# Altium schematic symbol library HW_ADHERENT_LANECTRL_R1.SchLib: 1635 symbols (part 27 of 31)
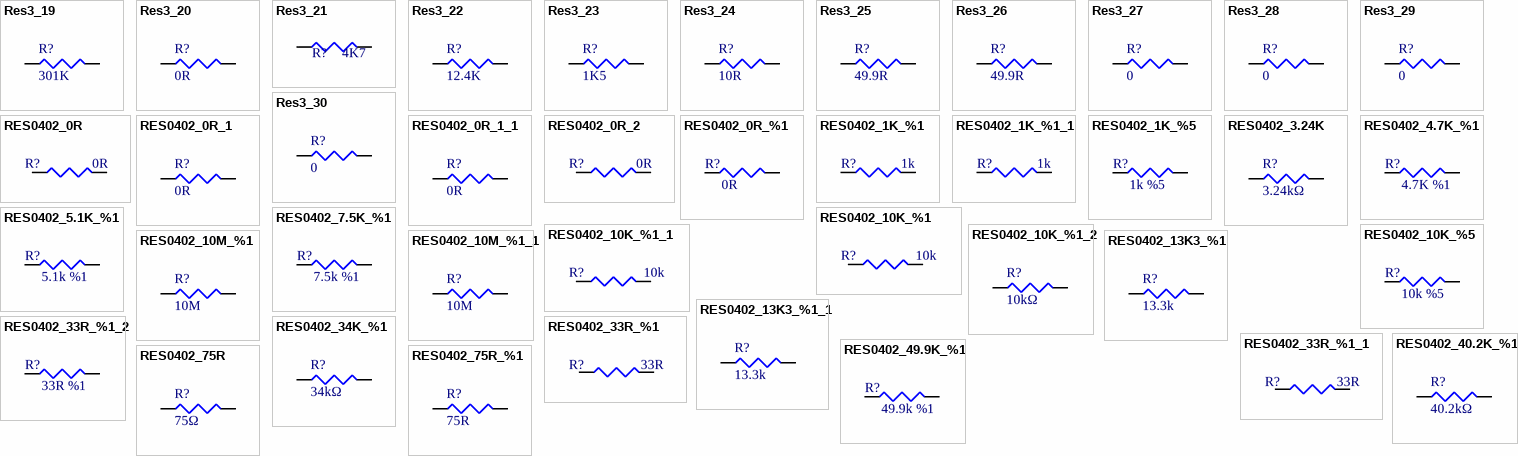
[diagram p77: symbols Res3_19 to RES0402_75R_%1]

## Res3_29
designator R?, comment 0
RES SMD 0 OHM JUMPER 1/10W 0603; Manufacturer: Yageo; Manufacturer Part Number: RC0603JR-070RL; Resistance: 0mR; Tolerance: 1%; Voltage Rating: 50V; Power Rating: 100mW; Temperature Coefficient: 200ppm/°C; Resistance Tolerance: 5%; ComponentLink1URL: https://datasheet.ciiva.com/11819/0900766b80c66297-11819477.pdf?src-supplier=RSComponents; ComponentLink1Description: https://datasheet.ciiva.com/11819/0900766b80c66297-11819477.pdf?src-supplier=RSComponents; ComponentLink2URL: https://datasheet.ciiva.com/12666/pyu-rc0402-51-rohs-l-6-r-12666741.pdf?src-supplier=Mouser; ComponentLink2Description: https://datasheet.ciiva.com/12666/pyu-rc0402-51-rohs-l-6-r-12666741.pdf?src-supplier=Mouser; ComponentLink3URL: https://datasheet.ciiva.com/17063/pyu-rc0402-51-rohs-l-6-r-17063193.pdf?src-supplier=Future+Electronics; ComponentLink3Description: https://datasheet.ciiva.com/17063/pyu-rc0402-51-rohs-l-6-r-17063193.pdf?src-supplier=Future+Electronics; ComponentLink4URL: https://datasheet.ciiva.com/22747/1018594-22747513.pdf?src-supplier=Element14; ComponentLink4Description: https://datasheet.ciiva.com/22747/1018594-22747513.pdf?src-supplier=Element14; ComponentLink5URL: https://datasheet.ciiva.com/7849/1018594-7849869.pdf?src-supplier=Element14; ComponentLink5Description: https://datasheet.ciiva.com/7849/1018594-7849869.pdf?src-supplier=Element14; ComponentLink6URL: https://datasheet.ciiva.com/7983/1018594-7983502.pdf?src-supplier=Element14; ComponentLink6Description: https://datasheet.ciiva.com/7983/1018594-7983502.pdf?src-supplier=Element14; ComponentLink7URL: https://datasheet.ciiva.com/7849/1018594-7849871.pdf?src-supplier=Element14; ComponentLink7Description: https://datasheet.ciiva.com/7849/1018594-7849871.pdf?src-supplier=Element14; ComponentLink8URL: https://datasheet.ciiva.com/11808/0900766b80c66297-11808195.pdf?src-supplier=RSComponents; ComponentLink8Description: https://datasheet.ciiva.com/11808/0900766b80c66297-11808195.pdf?src-supplier=RSComponents; ComponentLink9URL: https://datasheet.ciiva.com/2452/pyu-rc0402-51-rohs-l-6-2452608.pdf?src-supplier=Digi-Key; ComponentLink9Description: https://datasheet.ciiva.com/2452/pyu-rc0402-51-rohs-l-6-2452608.pdf?src-supplier=Digi-Key; ComponentLink10URL: https://datasheet.ciiva.com/2452/pyu-r-int-thick-7-2452609.pdf?src-supplier=Digi-Key; ComponentLink10Description: https://datasheet.ciiva.com/2452/pyu-r-int-thick-7-2452609.pdf?src-supplier=Digi-Key; ComponentLink11URL: https://datasheet.ciiva.com/2452/pyu-r-int-thick-7-2452610.pdf?src-supplier=Digi-Key; ComponentLink11Description: https://datasheet.ciiva.com/2452/pyu-r-int-thick-7-2452610.pdf?src-supplier=Digi-Key; ComponentLink12URL: https://datasheet.ciiva.com/28386/pyu-rc0402-51-rohs-l-6-28386633.pdf?src-supplier=Avnet+Europe; ComponentLink12Description: https://datasheet.ciiva.com/28386/pyu-rc0402-51-rohs-l-6-28386633.pdf?src-supplier=Avnet+Europe; ComponentLink13URL: https://datasheet.ciiva.com/22747/1018594-22747515.pdf?src-supplier=Element14; ComponentLink13Description: https://datasheet.ciiva.com/22747/1018594-22747515.pdf?src-supplier=Element14; ComponentLink14URL: https://datasheet.ciiva.com/7983/1018594-7983535.pdf?src-supplier=Element14; ComponentLink14Description: https://datasheet.ciiva.com/7983/1018594-7983535.pdf?src-supplier=Element14; ComponentLink15URL: https://datasheet.ciiva.com/8896/pyu-rc0402-51-rohs-l-6-8896201.pdf?src-supplier=Avnet; ComponentLink15Description: https://datasheet.ciiva.com/8896/pyu-rc0402-51-rohs-l-6-8896201.pdf?src-supplier=Avnet; ComponentLink16URL: https://datasheet.ciiva.com/15189/getdatasheetpartid-326379-15189533.pdf?src-supplier=Verical; ComponentLink16Description: https://datasheet.ciiva.com/15189/getdatasheetpartid-326379-15189533.pdf?src-supplier=Verical; Supplier 1: Digi-Key; Supplier Part Number 1: 311-0.0GRCT-ND; RoHS: Yes; Category: Chip SMD Resistors; Stock 1: 5228413; Pricing 1: 1=0,10000, 10=0,01700, 25=0,01240, 50=0,00940, 100=0,00700, 250=0,00532, 500=0,00424, 1000=0,00313 (USD); Case/Package: 0603; Number of Pins: 2; Case Code (Imperial): 0603; Case Code (Metric): 1608; Contact Plating: Tin,Matte; Size Code: 0603; Min Operating Temperature: -55°C; Max Operating Temperature: 155°C; Package Quantity: 5000; Packaging: Tape and Reel; Voltage Rating (DC): 50V; Termination: SMD/SMT; Resistor Type: Thick Film; Features: Moisture Resistant; Series: RC; Max Power Dissipation: 100mW; Number of Terminations: 2; Construction: Rectangular; Technology: THICK FILM; Length: 1.6mm; Width: 0.8mm; Height: 0.45mm; Depth: 0.8mm; Radiation Hardening: No; REACH SVHC: No SVHC; Military Standard: Not; Lead Free: Lead Free; RoHS Compliant: Yes; ComponentLink17URL: https://datasheet.ciiva.com/11808/pyu-r-int-6-11808700.pdf?src-supplier=RSComponents; ComponentLink17Description: https://datasheet.ciiva.com/11808/pyu-r-int-6-11808700.pdf?src-supplier=RSComponents; ComponentLink18URL: https://datasheet.ciiva.com/22747/443971-22747530.pdf?src-supplier=Element14; ComponentLink18Description: https://datasheet.ciiva.com/22747/443971-22747530.pdf?src-supplier=Element14; ComponentLink19URL: https://datasheet.ciiva.com/12555/rc0603-272842-12555254.pdf?src-supplier=Mouser; ComponentLink19Description: https://datasheet.ciiva.com/12555/rc0603-272842-12555254.pdf?src-supplier=Mouser; ComponentLink20URL: https://datasheet.ciiva.com/7746/1738695-7746421.pdf?src-supplier=Element14; ComponentLink20Description: https://datasheet.ciiva.com/7746/1738695-7746421.pdf?src-supplier=Element14; ComponentLink21URL: https://datasheet.ciiva.com/7746/1738695-7746422.pdf?src-supplier=Element14; ComponentLink21Description: https://datasheet.ciiva.com/7746/1738695-7746422.pdf?src-supplier=Element14; ComponentLink22URL: https://datasheet.ciiva.com/8883/pyu-rc0603-51-rohs-l-4-8883045.pdf?src-supplier=Avnet; ComponentLink22Description: https://datasheet.ciiva.com/8883/pyu-rc0603-51-rohs-l-4-8883045.pdf?src-supplier=Avnet
simulation model RESISTOR (Resistor)
signal-integrity model Res
footprint SMR0603
footprint R 0603(1608)
pins: 1, 2

## Res3_30
designator R?, comment 0
RES SMD 0 OHM JUMPER 1/10W 0603; Manufacturer: Yageo; Manufacturer Part Number: RC0603JR-070RL; Resistance: 0mR; Tolerance: 1%; Voltage Rating: 50V; Power Rating: 100mW; Temperature Coefficient: 200ppm/°C; Resistance Tolerance: 5%; ComponentLink1URL: https://datasheet.ciiva.com/11819/0900766b80c66297-11819477.pdf?src-supplier=RSComponents; ComponentLink1Description: https://datasheet.ciiva.com/11819/0900766b80c66297-11819477.pdf?src-supplier=RSComponents; ComponentLink2URL: https://datasheet.ciiva.com/12666/pyu-rc0402-51-rohs-l-6-r-12666741.pdf?src-supplier=Mouser; ComponentLink2Description: https://datasheet.ciiva.com/12666/pyu-rc0402-51-rohs-l-6-r-12666741.pdf?src-supplier=Mouser; ComponentLink3URL: https://datasheet.ciiva.com/17063/pyu-rc0402-51-rohs-l-6-r-17063193.pdf?src-supplier=Future+Electronics; ComponentLink3Description: https://datasheet.ciiva.com/17063/pyu-rc0402-51-rohs-l-6-r-17063193.pdf?src-supplier=Future+Electronics; ComponentLink4URL: https://datasheet.ciiva.com/22747/1018594-22747513.pdf?src-supplier=Element14; ComponentLink4Description: https://datasheet.ciiva.com/22747/1018594-22747513.pdf?src-supplier=Element14; ComponentLink5URL: https://datasheet.ciiva.com/7849/1018594-7849869.pdf?src-supplier=Element14; ComponentLink5Description: https://datasheet.ciiva.com/7849/1018594-7849869.pdf?src-supplier=Element14; ComponentLink6URL: https://datasheet.ciiva.com/7983/1018594-7983502.pdf?src-supplier=Element14; ComponentLink6Description: https://datasheet.ciiva.com/7983/1018594-7983502.pdf?src-supplier=Element14; ComponentLink7URL: https://datasheet.ciiva.com/7849/1018594-7849871.pdf?src-supplier=Element14; ComponentLink7Description: https://datasheet.ciiva.com/7849/1018594-7849871.pdf?src-supplier=Element14; ComponentLink8URL: https://datasheet.ciiva.com/11808/0900766b80c66297-11808195.pdf?src-supplier=RSComponents; ComponentLink8Description: https://datasheet.ciiva.com/11808/0900766b80c66297-11808195.pdf?src-supplier=RSComponents; ComponentLink9URL: https://datasheet.ciiva.com/2452/pyu-rc0402-51-rohs-l-6-2452608.pdf?src-supplier=Digi-Key; ComponentLink9Description: https://datasheet.ciiva.com/2452/pyu-rc0402-51-rohs-l-6-2452608.pdf?src-supplier=Digi-Key; ComponentLink10URL: https://datasheet.ciiva.com/2452/pyu-r-int-thick-7-2452609.pdf?src-supplier=Digi-Key; ComponentLink10Description: https://datasheet.ciiva.com/2452/pyu-r-int-thick-7-2452609.pdf?src-supplier=Digi-Key; ComponentLink11URL: https://datasheet.ciiva.com/2452/pyu-r-int-thick-7-2452610.pdf?src-supplier=Digi-Key; ComponentLink11Description: https://datasheet.ciiva.com/2452/pyu-r-int-thick-7-2452610.pdf?src-supplier=Digi-Key; ComponentLink12URL: https://datasheet.ciiva.com/28386/pyu-rc0402-51-rohs-l-6-28386633.pdf?src-supplier=Avnet+Europe; ComponentLink12Description: https://datasheet.ciiva.com/28386/pyu-rc0402-51-rohs-l-6-28386633.pdf?src-supplier=Avnet+Europe; ComponentLink13URL: https://datasheet.ciiva.com/22747/1018594-22747515.pdf?src-supplier=Element14; ComponentLink13Description: https://datasheet.ciiva.com/22747/1018594-22747515.pdf?src-supplier=Element14; ComponentLink14URL: https://datasheet.ciiva.com/7983/1018594-7983535.pdf?src-supplier=Element14; ComponentLink14Description: https://datasheet.ciiva.com/7983/1018594-7983535.pdf?src-supplier=Element14; ComponentLink15URL: https://datasheet.ciiva.com/8896/pyu-rc0402-51-rohs-l-6-8896201.pdf?src-supplier=Avnet; ComponentLink15Description: https://datasheet.ciiva.com/8896/pyu-rc0402-51-rohs-l-6-8896201.pdf?src-supplier=Avnet; ComponentLink16URL: https://datasheet.ciiva.com/15189/getdatasheetpartid-326379-15189533.pdf?src-supplier=Verical; ComponentLink16Description: https://datasheet.ciiva.com/15189/getdatasheetpartid-326379-15189533.pdf?src-supplier=Verical; Supplier 1: Digi-Key; Supplier Part Number 1: 311-0.0GRCT-ND; RoHS: Yes; Category: Chip SMD Resistors; Stock 1: 5228413; Pricing 1: 1=0,10000, 10=0,01700, 25=0,01240, 50=0,00940, 100=0,00700, 250=0,00532, 500=0,00424, 1000=0,00313 (USD); Case/Package: 0603; Number of Pins: 2; Case Code (Imperial): 0603; Case Code (Metric): 1608; Contact Plating: Tin,Matte; Size Code: 0603; Min Operating Temperature: -55°C; Max Operating Temperature: 155°C; Package Quantity: 5000; Packaging: Tape and Reel; Voltage Rating (DC): 50V; Termination: SMD/SMT; Resistor Type: Thick Film; Features: Moisture Resistant; Series: RC; Max Power Dissipation: 100mW; Number of Terminations: 2; Construction: Rectangular; Technology: THICK FILM; Length: 1.6mm; Width: 0.8mm; Height: 0.45mm; Depth: 0.8mm; Radiation Hardening: No; REACH SVHC: No SVHC; Military Standard: Not; Lead Free: Lead Free; RoHS Compliant: Yes; ComponentLink17URL: https://datasheet.ciiva.com/11808/pyu-r-int-6-11808700.pdf?src-supplier=RSComponents; ComponentLink17Description: https://datasheet.ciiva.com/11808/pyu-r-int-6-11808700.pdf?src-supplier=RSComponents; ComponentLink18URL: https://datasheet.ciiva.com/22747/443971-22747530.pdf?src-supplier=Element14; ComponentLink18Description: https://datasheet.ciiva.com/22747/443971-22747530.pdf?src-supplier=Element14; ComponentLink19URL: https://datasheet.ciiva.com/12555/rc0603-272842-12555254.pdf?src-supplier=Mouser; ComponentLink19Description: https://datasheet.ciiva.com/12555/rc0603-272842-12555254.pdf?src-supplier=Mouser; ComponentLink20URL: https://datasheet.ciiva.com/7746/1738695-7746421.pdf?src-supplier=Element14; ComponentLink20Description: https://datasheet.ciiva.com/7746/1738695-7746421.pdf?src-supplier=Element14; ComponentLink21URL: https://datasheet.ciiva.com/7746/1738695-7746422.pdf?src-supplier=Element14; ComponentLink21Description: https://datasheet.ciiva.com/7746/1738695-7746422.pdf?src-supplier=Element14; ComponentLink22URL: https://datasheet.ciiva.com/8883/pyu-rc0603-51-rohs-l-4-8883045.pdf?src-supplier=Avnet; ComponentLink22Description: https://datasheet.ciiva.com/8883/pyu-rc0603-51-rohs-l-4-8883045.pdf?src-supplier=Avnet
simulation model RESISTOR (Resistor)
signal-integrity model Res
footprint SMR0603
footprint R 0603(1608)
pins: 1, 2

## RES0402_0R
designator R?, comment value 0R  (hidden comment: RES 0 OHM JUMPER 1/16W 0402)
0 Ohms Jumper Chip Resistor 0402 (1005 Metric) Moisture Resistant Thick Film; Manufacturer Part Number: RC0402JR-070RL; Order Code: Digi: 311-0.0JRTR-ND; Sirius Stock Code: *; LCSC Manufacturer Part Number: RC0402JR-070RL; LCSC Part Number: C60485
footprint RES0402(1005)
pins: 1, 2

## RES0402_0R_1
designator R?, comment value 0R  (hidden comment: RES 0 OHM JUMPER 1/16W 0402)
0 Ohms Jumper Chip Resistor 0402 (1005 Metric) Moisture Resistant Thick Film; Manufacturer Part Number: RC0402JR-070RL; Order Code: Digi: 311-0.0JRTR-ND; Sirius Stock Code: *; LCSC Manufacturer Part Number: RC0402JR-070RL; LCSC Part Number: C60485
footprint RES0402(1005)
pins: 1, 2

## RES0402_0R_1_1
designator R?, comment value 0R  (hidden comment: RES 0 OHM JUMPER 1/16W 0402)
0 Ohms Jumper Chip Resistor 0402 (1005 Metric) Moisture Resistant Thick Film; Manufacturer Part Number: RC0402JR-070RL; Order Code: Digi: 311-0.0JRTR-ND; Sirius Stock Code: *; LCSC Manufacturer Part Number: RC0402JR-070RL; LCSC Part Number: C60485
footprint RES0402(1005)
pins: 1, 2

## RES0402_0R_2
designator R?, comment value 0R  (hidden comment: RES 0 OHM JUMPER 1/16W 0402)
0 Ohms Jumper Chip Resistor 0402 (1005 Metric) Moisture Resistant Thick Film; Manufacturer Part Number: RC0402JR-070RL; Order Code: Digi: 311-0.0JRTR-ND; Sirius Stock Code: *; LCSC Manufacturer Part Number: RC0402JR-070RL; LCSC Part Number: C60485
footprint RES0402(1005)
pins: 1, 2

## RES0402_0R_%1
designator R?, comment value 0R  (hidden comment: RES SMD 0 OHM JUMPER 1/16W 0402)
0 Ohms Jumper Chip Resistor 0402 (1005 Metric) Automotive AEC-Q200 Thick Film; Manufacturer Part Number: CRCW04020000Z0ED; Order Code: DIGI: 541-0.0JTR-ND
footprint SMR0402
pins: 1, 2

## RES0402_1K_%1
designator R?, comment value 1k  (hidden comment: RES 1K OHM 1% 1/16W 0402)
1 kOhms ±1% 0.063W, 1/16W Chip Resistor 0402 (1005 Metric) Moisture Resistant Thick Film; Manufacturer Part Number: RC0402FR-071KL; Order Code: Digi: 311-1.00KLRTR-ND; Sirius Stock Code: *; LCSC Manufacturer Part Number: RC0402FR-071KL; LCSC Part Number: C106235
footprint RES0402(1005)
pins: 1, 2

## RES0402_1K_%1_1
designator R?, comment value 1k  (hidden comment: RES 1K OHM 1% 1/16W 0402)
1 kOhms ±1% 0.063W, 1/16W Chip Resistor 0402 (1005 Metric) Moisture Resistant Thick Film; Manufacturer Part Number: RC0402FR-071KL; Order Code: Digi: 311-1.00KLRTR-ND; Sirius Stock Code: *; LCSC Manufacturer Part Number: RC0402FR-071KL; LCSC Part Number: C106235
footprint RES0402(1005)
pins: 1, 2

## RES0402_1K_%5
designator R?, comment value 1k %5  (hidden comment: RES SMD 1K OHM 5% 1/10W 0402)
1 kOhms ±5% 0.1W, 1/10W Chip Resistor 0402 (1005 Metric) Automotive AEC-Q200 Thick Film; Manufacturer Part Number: ERJ-2GEJ102X; Order Code: DIGI: P1.0KJTR-ND
footprint SMR0402
pins: 1, 2

## RES0402_3.24K
designator R?, comment 3.24kΩ
22.1 kOhms ±1% 0.063W, 1/16W Chip Resistor 0402 (1005 Metric) Automotive AEC-Q200 Thick Film; Manufacturer Part Number: ERJ-2RKF3241X; LCSC Manufacturer Part Number: RC0402FR-0756K2L; Order Code: Digi: YAG3187TR-ND; Sirius Stock Code: *; LCSC Part Number: C183355; Value: 3.24kΩ
footprint RES0402
pins: 1, 2

## RES0402_4.7K_%1
designator R?, comment value 4.7K %1  (hidden comment: RES SMD 4.7K OHM 1% 1/16W 0402)
4.7 kOhms ±1% 0.063W, 1/16W Chip Resistor 0402 (1005 Metric) Automotive AEC-Q200 Thick Film; Manufacturer Part Number: CRCW04024K70FKED; Order Code: DIGI: 541-4.70KLTR-ND
footprint SMR0402
pins: 1, 2

## RES0402_5.1K_%1
designator R?, comment value 5.1k %1  (hidden comment: RES SMD 5.1K OHM 1% 1/16W 0402)
5.1 kOhms ±1% 0.063W, 1/16W Chip Resistor 0402 (1005 Metric) Automotive AEC-Q200 Thick Film; Manufacturer Part Number: CRCW04025K10FKED; Order Code: DIGI: 541-5.10KLTR-ND
footprint SMR0402
pins: 1, 2

## RES0402_7.5K_%1
designator R?, comment value 7.5k %1  (hidden comment: RES 7.5K OHM 1% 1/16W 0402)
7.5 kOhms ±1% 0.063W, 1/16W Chip Resistor 0402 (1005 Metric) Thick Film; Manufacturer Part Number: CRCW04027K50FKEDC; Order Code: DIGI: 541-5086-2-ND
footprint SMR0402
pins: 1, 2

## RES0402_10K_%1
designator R?, comment value 10k  (hidden comment: RES 10K OHM 1% 1/16W 0402)
10 kOhms ±1% 0.063W, 1/16W Chip Resistor 0402 (1005 Metric) Moisture Resistant Thick Film; Manufacturer Part Number: RC0402FR-0710KL; Order Code: Digi: 311-10.0KLRTR-ND; Sirius Stock Code: *; LCSC Manufacturer Part Number: RC0402FR-0710KL; LCSC Part Number: C60490
footprint RES0402(1005)
pins: 1, 2

## RES0402_10K_%1_1
designator R?, comment value 10k  (hidden comment: RES 10K OHM 1% 1/16W 0402)
10 kOhms ±1% 0.063W, 1/16W Chip Resistor 0402 (1005 Metric) Moisture Resistant Thick Film; Manufacturer Part Number: RC0402FR-0710KL; Order Code: Digi: 311-10.0KLRTR-ND; Sirius Stock Code: *; LCSC Manufacturer Part Number: RC0402FR-0710KL; LCSC Part Number: C60490
footprint RES0402(1005)
pins: 1, 2

## RES0402_10K_%1_2
designator R?, comment 10kΩ
10 kOhms ±1% 0.063W, 1/16W Chip Resistor 0402 (1005 Metric) Moisture Resistant Thick Film; Manufacturer Part Number: RC1005F103CS; LCSC Manufacturer Part Number: RC0402FR-0756K2L; Order Code: Digi: YAG3187TR-ND; Sirius Stock Code: *; LCSC Part Number: C183355; Value: 10kΩ
footprint RES0402
pins: 1, 2

## RES0402_10K_%5
designator R?, comment value 10k %5  (hidden comment: RES SMD 10K OHM 5% 1/16W 0402)
10 kOhms ±5% 0.063W, 1/16W Chip Resistor 0402 (1005 Metric) Automotive AEC-Q200 Thick Film; Manufacturer Part Number: CRCW040210K0JNED; Order Code: DIGI: 541-10KJTR-ND
footprint SMR0402
pins: 1, 2

## RES0402_10M_%1
designator R?, comment value 10M  (hidden comment: RES 10M OHM 1% 1/16W 0402)
10MΩ 62.5mW ±1% Thick Film Resistors 0402 Chip Resistor - Surface Mount ROHS; Manufacturer Part Number: RC0402FR-0710ML; Order Code: Digi: 311-10.0MLRTR-ND; Sirius Stock Code: *; LCSC Manufacturer Part Number: RC0402FR-0710ML; LCSC Part Number: C138067
footprint RES0402(1005)
pins: 1, 2

## RES0402_10M_%1_1
designator R?, comment value 10M  (hidden comment: RES 10M OHM 1% 1/16W 0402)
10MΩ 62.5mW ±1% Thick Film Resistors 0402 Chip Resistor - Surface Mount ROHS; Manufacturer Part Number: RC0402FR-0710ML; Order Code: Digi: 311-10.0MLRTR-ND; Sirius Stock Code: *; LCSC Manufacturer Part Number: RC0402FR-0710ML; LCSC Part Number: C138067
footprint RES0402(1005)
pins: 1, 2

## RES0402_13K3_%1
designator R?, comment value 13.3k  (hidden comment: RES 1M OHM 1% 1/16W 0402)
1 MOhms ±1% 0.063W, 1/16W Chip Resistor 0402 (1005 Metric) Moisture Resistant Thick Film; Manufacturer Part Number: RC0402FR-0713K3L; Order Code: Digi: YAG2974TR-ND; Sirius Stock Code: *; LCSC Manufacturer Part Number: RC0402FR-0713K3L; LCSC Part Number: C274352
footprint RES0402(1005)
pins: 1, 2

## RES0402_13K3_%1_1
designator R?, comment value 13.3k  (hidden comment: RES 1M OHM 1% 1/16W 0402)
1 MOhms ±1% 0.063W, 1/16W Chip Resistor 0402 (1005 Metric) Moisture Resistant Thick Film; Manufacturer Part Number: RC0402FR-0713K3L; Order Code: Digi: YAG2974TR-ND; Sirius Stock Code: *; LCSC Manufacturer Part Number: RC0402FR-0713K3L; LCSC Part Number: C274352
footprint RES0402(1005)
pins: 1, 2

## RES0402_33R_%1
designator R?, comment value 33R  (hidden comment: RES 33 OHM 1% 1/16W 0402)
33 Ohms ±1% 0.063W, 1/16W Chip Resistor 0402 (1005 Metric) Moisture Resistant Thick Film; Manufacturer Part Number: RC0402FR-0733RL; Order Code: Digi: 311-33.0LRTR-ND; Sirius Stock Code: *; LCSC Manufacturer Part Number: RC0402FR-0733RL; LCSC Part Number: C138002
footprint RES0402(1005)
pins: 1, 2

## RES0402_33R_%1_1
designator R?, comment value 33R  (hidden comment: RES 33 OHM 1% 1/16W 0402)
33 Ohms ±1% 0.063W, 1/16W Chip Resistor 0402 (1005 Metric) Moisture Resistant Thick Film; Manufacturer Part Number: RC0402FR-0733RL; Order Code: Digi: 311-33.0LRTR-ND; Sirius Stock Code: *; LCSC Manufacturer Part Number: RC0402FR-0733RL; LCSC Part Number: C138002
footprint RES0402(1005)
pins: 1, 2

## RES0402_33R_%1_2
designator R?, comment value 33R %1  (hidden comment: RES SMD 33 OHM 1% 1/16W 0402)
33 Ohms ±1% 0.063W, 1/16W Chip Resistor 0402 (1005 Metric) Automotive AEC-Q200 Thick Film; Manufacturer Part Number: CRCW040233R0FKED; Order Code: DIGI: 541-33.0LTR-ND
footprint SMR0402
pins: 1, 2

## RES0402_34K_%1
designator R?, comment 34kΩ
34 kOhms ±1% 0.063W, 1/16W Chip Resistor 0402 (1005 Metric) Automotive AEC-Q200 Thick Film; Manufacturer Part Number: CRCW040234K0FKED; LCSC Manufacturer Part Number: RC0402FR-0756K2L; Order Code: Digi: YAG3187TR-ND; Sirius Stock Code: *; LCSC Part Number: C183355; Value: 34kΩ
footprint RES0402
pins: 1, 2

## RES0402_40.2K_%1
designator R?, comment 40.2kΩ
40.2 kOhms ±1% 0.063W, 1/16W Chip Resistor 0402 (1005 Metric) Automotive AEC-Q200 Thick Film; Manufacturer Part Number: CRCW040240K2FKED; LCSC Manufacturer Part Number: RC0402FR-0756K2L; Order Code: Digi: YAG3187TR-ND; Sirius Stock Code: *; LCSC Part Number: C183355; Value: 40.2kΩ
footprint RES0402
pins: 1, 2

## RES0402_49.9K_%1
designator R?, comment value 49.9k %1  (hidden comment: RES SMD 49.9K OHM 1% 1/16W 0402)
49.9 kOhms ±1% 0.063W, 1/16W Chip Resistor 0402 (1005 Metric) Automotive AEC-Q200 Thick Film; Manufacturer Part Number: CRCW040249K9FKED; Order Code: DIGI: 541-49.9KLTR-ND
footprint SMR0402
pins: 1, 2

## RES0402_75R
designator R?, comment 75Ω
75 Ohms ±1% 0.063W, 1/16W Chip Resistor 0402 (1005 Metric) Moisture Resistant Thick Film; Manufacturer Part Number: RC0402FR-0775RL; LCSC Manufacturer Part Number: RC0402FR-0756K2L; Order Code: Digi: YAG3187TR-ND; Value: 75Ω; Sirius Stock Code: *; LCSC Part Number: C183355
footprint RES0402
pins: 1, 2

## RES0402_75R_%1
designator R?, comment value 75R  (hidden comment: RES 75 OHM 1% 1/16W 0402)
75 Ohms ±1% 0.063W, 1/16W Chip Resistor 0402 (1005 Metric) Moisture Resistant Thick Film; Manufacturer Part Number: RC0402FR-0775RL; Order Code: Digi: 311-75.0LRTR-ND; Sirius Stock Code: *; LCSC Part Number: C114757; LCSC Manufacturer Part Number: RC0402FR-0775RL
footprint RES0402(1005)
pins: 1, 2

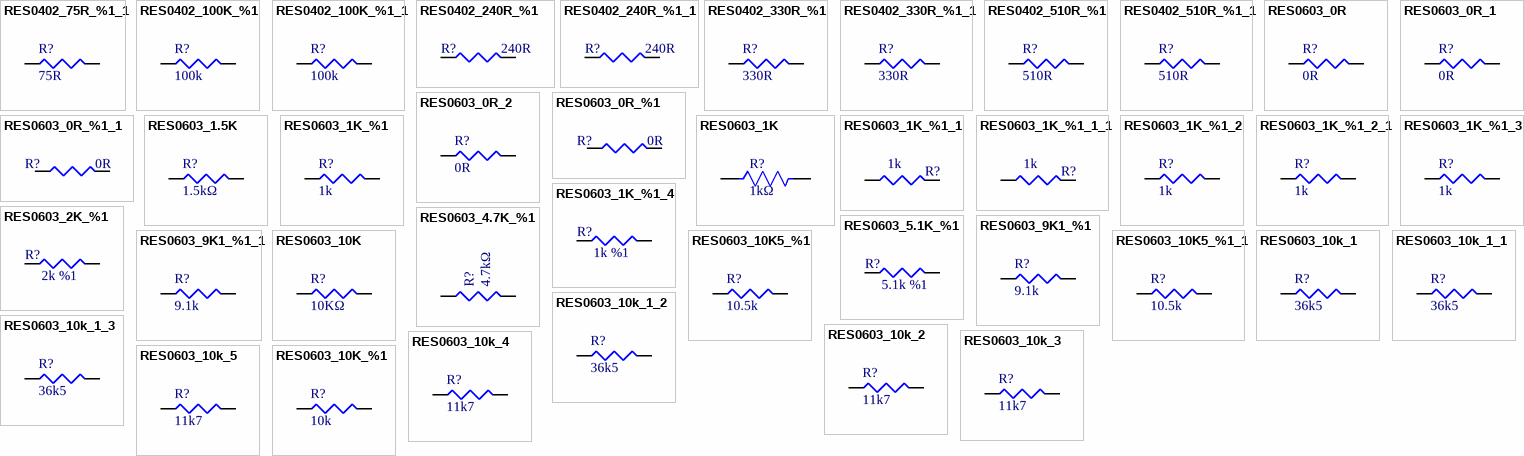
[diagram p37: symbols RES0402_75R_%1_1 to RES0603_10K_%1]

## RES0402_75R_%1_1
designator R?, comment value 75R  (hidden comment: RES 75 OHM 1% 1/16W 0402)
75 Ohms ±1% 0.063W, 1/16W Chip Resistor 0402 (1005 Metric) Moisture Resistant Thick Film; Manufacturer Part Number: RC0402FR-0775RL; Order Code: Digi: 311-75.0LRTR-ND; Sirius Stock Code: *; LCSC Part Number: C114757; LCSC Manufacturer Part Number: RC0402FR-0775RL
footprint RES0402(1005)
pins: 1, 2

## RES0402_100K_%1
designator R?, comment value 100k  (hidden comment: RES 100K OHM 1% 1/16W 0402)
100 kOhms ±1% 0.063W, 1/16W Chip Resistor 0402 (1005 Metric) Moisture Resistant Thick Film; Manufacturer Part Number: RC0402FR-07100KL; Order Code: Digi: 311-100KLRTR-ND; Sirius Stock Code: *; LCSC Part Number: C60491; LCSC Manufacturer Part Number: RC0402FR-07100KL
footprint RES0402(1005)
pins: 1, 2

## RES0402_100K_%1_1
designator R?, comment value 100k  (hidden comment: RES 100K OHM 1% 1/16W 0402)
100 kOhms ±1% 0.063W, 1/16W Chip Resistor 0402 (1005 Metric) Moisture Resistant Thick Film; Manufacturer Part Number: RC0402FR-07100KL; Order Code: Digi: 311-100KLRTR-ND; Sirius Stock Code: *; LCSC Part Number: C60491; LCSC Manufacturer Part Number: RC0402FR-07100KL
footprint RES0402(1005)
pins: 1, 2

## RES0402_240R_%1
designator R?, comment value 240R  (hidden comment: RES 240 OHM 1% 1/16W 0402)
240 Ohms ±1% 0.063W, 1/16W Chip Resistor 0402 (1005 Metric) Moisture Resistant Thick Film; Manufacturer Part Number: RC0402FR-07240RL; Order Code: Digi: 311-240LRTR-ND; Sirius Stock Code: *; LCSC Part Number: C114755; LCSC Manufacturer Part Number: RC0402FR-07240RL
footprint RES0402(1005)
pins: 1, 2

## RES0402_240R_%1_1
designator R?, comment value 240R  (hidden comment: RES 240 OHM 1% 1/16W 0402)
240 Ohms ±1% 0.063W, 1/16W Chip Resistor 0402 (1005 Metric) Moisture Resistant Thick Film; Manufacturer Part Number: RC0402FR-07240RL; Order Code: Digi: 311-240LRTR-ND; Sirius Stock Code: *; LCSC Part Number: C114755; LCSC Manufacturer Part Number: RC0402FR-07240RL
footprint RES0402(1005)
pins: 1, 2

## RES0402_330R_%1
designator R?, comment value 330R  (hidden comment: RES 330 OHM 1% 1/16W 0402)
330 Ohms ±1% 0.063W, 1/16W Chip Resistor 0402 (1005 Metric) Moisture Resistant Thick Film; Manufacturer Part Number: RC0402FR-07330RL; Order Code: Digi: 311-330LRTR-ND; Sirius Stock Code: *; LCSC Part Number: C105875; LCSC Manufacturer Part Number: RC0402FR-07330RL
footprint RES0402(1005)
pins: 1, 2

## RES0402_330R_%1_1
designator R?, comment value 330R  (hidden comment: RES 330 OHM 1% 1/16W 0402)
330 Ohms ±1% 0.063W, 1/16W Chip Resistor 0402 (1005 Metric) Moisture Resistant Thick Film; Manufacturer Part Number: RC0402FR-07330RL; Order Code: Digi: 311-330LRTR-ND; Sirius Stock Code: *; LCSC Part Number: C105875; LCSC Manufacturer Part Number: RC0402FR-07330RL
footprint RES0402(1005)
pins: 1, 2

## RES0402_510R_%1
designator R?, comment value 510R  (hidden comment: RES 510 OHM 5% 1/16W 0402)
510 Ohms ±5% 0.063W, 1/16W Chip Resistor 0402 (1005 Metric) Moisture Resistant Thick Film; Manufacturer Part Number: RC0402JR-07510RL; Order Code: Digi: 311-510JRTR-ND; Sirius Stock Code: *; LCSC Part Number: C137860; LCSC Manufacturer Part Number: RC0402JR-07510RL
footprint RES0402(1005)
pins: 1, 2

## RES0402_510R_%1_1
designator R?, comment value 510R  (hidden comment: RES 510 OHM 5% 1/16W 0402)
510 Ohms ±5% 0.063W, 1/16W Chip Resistor 0402 (1005 Metric) Moisture Resistant Thick Film; Manufacturer Part Number: RC0402JR-07510RL; Order Code: Digi: 311-510JRTR-ND; Sirius Stock Code: *; LCSC Part Number: C137860; LCSC Manufacturer Part Number: RC0402JR-07510RL
footprint RES0402(1005)
pins: 1, 2

## RES0603_0R
designator R?, comment value 0R  (hidden comment: RES 0 OHM JUMPER 1/10W 0603)
0 Ohms Jumper 0.1W, 1/10W Chip Resistor 0603 (1608 Metric) Automotive AEC-Q200 Thick Film; Manufacturer Part Number: RMCF0603ZT0R00; LCSC Manufacturer Part Number: RCA06030000ZSEA; Sirius Stock Code: S182-00000RDJD; Order Code: Digi:RMCF0603ZT0R00TR-ND; LCSC Part Number: C5158082
footprint RES0603 (RESISTOR 0603)
pins: 1, 2

## RES0603_0R_1
designator R?, comment value 0R  (hidden comment: RES 0 OHM JUMPER 1/10W 0603)
0 Ohms Jumper 0.1W, 1/10W Chip Resistor 0603 (1608 Metric) Automotive AEC-Q200 Thick Film; Manufacturer Part Number: RMCF0603ZT0R00; LCSC Manufacturer Part Number: RCA06030000ZSEA; Sirius Stock Code: S182-00000RDJD; Order Code: Digi:RMCF0603ZT0R00TR-ND; LCSC Part Number: C5158082
footprint RES0603 (RESISTOR 0603)
pins: 1, 2

## RES0603_0R_2
designator R?, comment 0R
RES SMD 0 OHM JUMPER 1/10W 0603; Manufacturer Part Number: ERJ-3GEY0R00V; Order Code: DIGI : P0.0GCT-ND; ART Code: ART0016157; Value: 0R
footprint R0603
pins: 1, 2

## RES0603_0R_%1
designator R?, comment value 0R  (hidden comment: RES 0R OHM 1% 1/10W 0603)
10 kOhms ±1% 0.1W, 1/10W Chip Resistor 0603 (1608 Metric) Moisture Resistant Thick Film; Manufacturer Part Number: RC0603FR-070RL; Order Code: Digi: 311-0.0HRTR-ND; Sirius Stock Code: *; LCSC Part Number: C100044; LCSC Manufacturer Part Number: RC0603FR-070RL
footprint SMR0603
pins: 1, 2

## RES0603_0R_%1_1
designator R?, comment value 0R  (hidden comment: RES 0R OHM 1% 1/10W 0603)
10 kOhms ±1% 0.1W, 1/10W Chip Resistor 0603 (1608 Metric) Moisture Resistant Thick Film; Manufacturer Part Number: RC0603FR-070RL; Order Code: Digi: 311-0.0HRTR-ND; Sirius Stock Code: *; LCSC Part Number: C100044; LCSC Manufacturer Part Number: RC0603FR-070RL
footprint SMR0603
pins: 1, 2

## RES0603_1.5K
designator R?, comment 1.5kΩ
1.5 kOhms ±1% 0.1W, 1/10W Chip Resistor 0603 (1608 Metric) Moisture Resistant Thick Film; Manufacturer: YAGEO; Part Number: RC0603JR-0710KL; Manufacturer Part Number: CR0603-FX-2492ELF; Tolerance: ±5%; Category 7542B8484461Ae85: Passive Components; Category 5A00970A6D5C81C7: Uncategorized; Category 5C6A91606D4187Ad: Resistors; Category Cd01000Bfc2916C6: Single Components; Symbol 0 0: Standard; Num Pins: 2; Value: 1.5kΩ; Package: 0603 (1608 metric); ComponentLink1Description: Upverter; ComponentLink1URL: https://upverter.com/upn/revision/974350d35a6c8a23/; helpURL: https://upverter.com/upn/revision/974350d35a6c8a23/; ComponentLink2Description: Datasheet; Temperature: -55°C to +155°C; Supplier 2: Mouser; Price: 0.00379592162232; Supplier 1: Digi-Key; Supplier Part Number 1: 311-10KGRCT-ND; ComponentLink2URL: http://www.yageo.com/documents/recent/PYu-RC_Group_51_RoHS_L_6.pdf; RoHS: TRUE; Mouser Part Number: 603-RC0603JR-0710KL; Ipc Land Pattern Name: RESC16080X45; Rated Power: 0.1W; Temperature Range High: +155°C; Octopart Part Number: 1fdcd61e8aa8c01b; Digikey Description: RES 10k Ohm ±5% 0.1W, 1/10W Chip Resistor 0603 (1608 Metric) Moisture Resistant Thick Film; Digikey Part Number: 311-10KGRCT-ND; Type: integrated circuit; Lead Free: yes; Temperature Range Low: -55°C
footprint R0603
pins: 1, 2

## RES0603_1K
designator R?, comment 1kΩ
1 kOhms ±1% 0.125W, 1/8W Chip Resistor 0603 (1608 Metric) Anti-Sulfur Thin Film; Part Number: RC0603JR-0710KL; Manufacturer Part Number: RMCF0603FT180K; Manufacturer: YAGEO; Rated Power: 0.1W; Tolerance: ±5%; Category 7542B8484461Ae85: Passive Components; Category 5A00970A6D5C81C7: Uncategorized; Category 5C6A91606D4187Ad: Resistors; Category Cd01000Bfc2916C6: Single Components; Symbol 0 0: Standard; Num Pins: 2; helpURL: https://upverter.com/upn/revision/974350d35a6c8a23/; ComponentLink2Description: Datasheet; Temperature: -55°C to +155°C; Package: 0603 (1608 metric); Supplier 2: Mouser; Price: 0.00379592162232; Supplier 1: Digi-Key; ComponentLink1URL: https://upverter.com/upn/revision/974350d35a6c8a23/; Supplier Part Number 1: 311-10KGRCT-ND; ComponentLink1Description: Upverter; ComponentLink2URL: http://www.yageo.com/documents/recent/PYu-RC_Group_51_RoHS_L_6.pdf; RoHS: TRUE; Mouser Part Number: 603-RC0603JR-0710KL; Ipc Land Pattern Name: RESC16080X45; Temperature Range High: +155°C; Octopart Part Number: 1fdcd61e8aa8c01b; Digikey Description: RES 10k Ohm ±5% 0.1W, 1/10W Chip Resistor 0603 (1608 Metric) Moisture Resistant Thick Film; Digikey Part Number: 311-10KGRCT-ND; Type: integrated circuit; Lead Free: yes; Temperature Range Low: -55°C; Value: 1kΩ
footprint R0603
pins: 1, 2

## RES0603_1K_%1
designator R?, comment value 1k  (hidden comment: RES 1K OHM 1% 1/10W 0603)
1 kOhms ±1% 0.1W, 1/10W Chip Resistor 0603 (1608 Metric) Moisture Resistant Thick Film; Manufacturer Part Number: RC0603FR-071KL; Order Code: Digi: 311-1.00KHRTR-ND; Sirius Stock Code: *; LCSC Part Number: C22548; LCSC Manufacturer Part Number: RC0603FR-071KL
footprint SMR0603
pins: 1, 2

## RES0603_1K_%1_1
designator R?, comment value 1k  (hidden comment: RES 1K OHM 1% 1/10W 0603)
1 kOhms ±1% 0.1W, 1/10W Chip Resistor 0603 (1608 Metric) Moisture Resistant Thick Film; Manufacturer Part Number: RC0603FR-071KL; Sirius Stock Code: S182-00001KDFD; Order Code: Digi:311-1.00KHRTR-ND
footprint RES0603 (RESISTOR 0603)
pins: 1, 2

## RES0603_1K_%1_1_1
designator R?, comment value 1k  (hidden comment: RES 1K OHM 1% 1/10W 0603)
1 kOhms ±1% 0.1W, 1/10W Chip Resistor 0603 (1608 Metric) Moisture Resistant Thick Film; Manufacturer Part Number: RC0603FR-071KL; Sirius Stock Code: S182-00001KDFD; Order Code: Digi:311-1.00KHRTR-ND
footprint RES0603 (RESISTOR 0603)
pins: 1, 2

## RES0603_1K_%1_2
designator R?, comment value 1k  (hidden comment: RES 1K OHM 1% 1/10W 0603)
1 kOhms ±1% 0.1W, 1/10W Chip Resistor 0603 (1608 Metric) Moisture Resistant Thick Film; Manufacturer Part Number: 0603WAF1001T5E; LCSC Part Number: C21190
footprint RES0603 (RESISTOR 0603)
pins: 1, 2

## RES0603_1K_%1_2_1
designator R?, comment value 1k  (hidden comment: RES 1K OHM 1% 1/10W 0603)
1 kOhms ±1% 0.1W, 1/10W Chip Resistor 0603 (1608 Metric) Moisture Resistant Thick Film; Manufacturer Part Number: 0603WAF1001T5E; LCSC Part Number: C21190
footprint RES0603 (RESISTOR 0603)
pins: 1, 2

## RES0603_1K_%1_3
designator R?, comment value 1k  (hidden comment: RES 1K OHM 1% 1/10W 0603)
1 kOhms ±1% 0.1W, 1/10W Chip Resistor 0603 (1608 Metric) Moisture Resistant Thick Film; Manufacturer Part Number: RC0603FR-071KL; Order Code: Digi: 311-1.00KHRTR-ND; Sirius Stock Code: *; LCSC Part Number: C22548; LCSC Manufacturer Part Number: RC0603FR-071KL
footprint SMR0603
pins: 1, 2

## RES0603_1K_%1_4
designator R?, comment value 1k %1  (hidden comment: RES SMD 1K OHM 1% 1/10W 0603)
1 kOhms ±1% 0.1W, 1/10W Chip Resistor 0603 (1608 Metric) Automotive AEC-Q200 Thick Film; Manufacturer Part Number: CRCW06031K00FKEA; Order Code: DIGI: 541-1.00KHTR-ND
footprint SMR0603
pins: 1, 2

## RES0603_2K_%1
designator R?, comment value 2k %1  (hidden comment: RES SMD 2K OHM 1% 1/10W 0603)
2 kOhms ±1% 0.1W, 1/10W Chip Resistor 0603 (1608 Metric) Automotive AEC-Q200 Thick Film; Manufacturer Part Number: CRCW06032K00FKEB; Order Code: DIGI: 541-CRCW06032K00FKEBTR-ND
footprint SMR0603
pins: 1, 2

## RES0603_4.7K_%1
designator R?, comment 4.7kΩ
4.7 kOhms ±1% 0.1W, 1/10W Chip Resistor 0603 (1608 Metric) Moisture Resistant Thick Film; Manufacturer Part Number: RC0603FR-074K7L; Order Code: Digi:311-4.70KHRTR-ND; Value: 4.7K; Sirius Stock Code: *
footprint R0603
pins: 1, 2

## RES0603_5.1K_%1
designator R?, comment value 5.1k %1  (hidden comment: RES SMD 5.1K OHM 5% 1/10W 0603)
5.1 kOhms ±5% 0.1W, 1/10W Chip Resistor 0603 (1608 Metric) Automotive AEC-Q200 Thick Film; Manufacturer Part Number: CRCW06035K10JNEA; Order Code: DIGI: 541-5.1KGTR-ND
footprint SMR0603
pins: 1, 2

## RES0603_9K1_%1
designator R?, comment value 9.1k  (hidden comment: RES 9.1K OHM 1% 1/10W 0603)
9.1 kOhms ±1% 0.1W, 1/10W Chip Resistor 0603 (1608 Metric) Moisture Resistant Thick Film; Manufacturer Part Number: RC0603FR-079K1L; Order Code: DIGI : 311-9.10KHRTR-ND; LCSC Manufacturer Part Number: RC0603FR-079K1L; LCSC Part Number: C114639
footprint SMR0603
pins: 1, 2

## RES0603_9K1_%1_1
designator R?, comment value 9.1k  (hidden comment: RES 9.1K OHM 1% 1/10W 0603)
9.1 kOhms ±1% 0.1W, 1/10W Chip Resistor 0603 (1608 Metric) Moisture Resistant Thick Film; Manufacturer Part Number: RC0603FR-079K1L; Order Code: DIGI : 311-9.10KHRTR-ND; LCSC Manufacturer Part Number: RC0603FR-079K1L; LCSC Part Number: C114639
footprint SMR0603
pins: 1, 2

## RES0603_10K
designator R?, comment 10KΩ
RES 10k Ohm ±5% 0.1W, 1/10W Chip Resistor 0603 (1608 Metric) Moisture Resistant Thick Film; Manufacturer: YAGEO; Manufacturer Part Number: RC0603JR-0710KL; Category 7542B8484461Ae85: Passive Components; Category 5A00970A6D5C81C7: Uncategorized; Category 5C6A91606D4187Ad: Resistors; Category Cd01000Bfc2916C6: Single Components; Symbol 0 0: Standard; Num Pins: 2; Tolerance: ±5%; Part Number: RC0603JR-0710KL; helpURL: https://upverter.com/upn/revision/974350d35a6c8a23/; ComponentLink2Description: Datasheet; Temperature: -55°C to +155°C; Package: 0603 (1608 metric); Supplier 2: Mouser; Price: 0.00379592162232; Supplier 1: Digi-Key; ComponentLink1URL: https://upverter.com/upn/revision/974350d35a6c8a23/; Supplier Part Number 1: 311-10KGRCT-ND; Value: 10KΩ; ComponentLink1Description: Upverter; ComponentLink2URL: http://www.yageo.com/documents/recent/PYu-RC_Group_51_RoHS_L_6.pdf; RoHS: TRUE; Mouser Part Number: 603-RC0603JR-0710KL; Ipc Land Pattern Name: RESC16080X45; Rated Power: 0.1W; Temperature Range High: +155°C; Octopart Part Number: 1fdcd61e8aa8c01b; Digikey Description: RES 10k Ohm ±5% 0.1W, 1/10W Chip Resistor 0603 (1608 Metric) Moisture Resistant Thick Film; Digikey Part Number: 311-10KGRCT-ND; Type: integrated circuit; Lead Free: yes; Temperature Range Low: -55°C
footprint R0603
pins: 1, 2

## RES0603_10K5_%1
designator R?, comment value 10.5k  (hidden comment: RES 10.5K OHM 1% 1/10W 0603)
100mW 10.5kΩ Thick Film Resistors ±1% 0603 Chip Resistor - Surface Mount ROHS; Manufacturer Part Number: 0603WAF1052T5E; Order Code: LCSC: C22855; Sirius Stock Code: *; LCSC Part Number: C22855; LCSC Manufacturer Part Number: 0603WAF1052T5E
footprint SMR0603
pins: 1, 2

## RES0603_10K5_%1_1
designator R?, comment value 10.5k  (hidden comment: RES 10.5K OHM 1% 1/10W 0603)
100mW 10.5kΩ Thick Film Resistors ±1% 0603 Chip Resistor - Surface Mount ROHS; Manufacturer Part Number: 0603WAF1052T5E; Order Code: LCSC: C22855; Sirius Stock Code: *; LCSC Part Number: C22855; LCSC Manufacturer Part Number: 0603WAF1052T5E
footprint SMR0603
pins: 1, 2

## RES0603_10k_1
designator R?, comment 36k5
36.5 kOhms ±0.1% 0.1W, 1/10W Chip Resistor 0603 (1608 Metric) Thin Film; Manufacturer Part Number: RT0603BRD0736K5L; Order Code: DIGI : YAG1644TR-ND; Value: 36k5
footprint RES0603 (RESISTOR 0603)
pins: 1, 2

## RES0603_10k_1_1
designator R?, comment 36k5
36.5 kOhms ±0.1% 0.1W, 1/10W Chip Resistor 0603 (1608 Metric) Thin Film; Manufacturer Part Number: RT0603BRD0736K5L; Order Code: DIGI : YAG1644TR-ND; Value: 36k5
footprint RES0603 (RESISTOR 0603)
pins: 1, 2

## RES0603_10k_1_2
designator R?, comment 36k5
36.5 kOhms ±0.1% 0.1W, 1/10W Chip Resistor 0603 (1608 Metric) Thin Film; Manufacturer Part Number: RT0603BRD0736K5L; Order Code: DIGI : YAG1644TR-ND; Value: 36k5
footprint RES0603 (RESISTOR 0603)
pins: 1, 2

## RES0603_10k_1_3
designator R?, comment 36k5
36.5 kOhms ±0.1% 0.1W, 1/10W Chip Resistor 0603 (1608 Metric) Thin Film; Manufacturer Part Number: RT0603BRD0736K5L; Order Code: DIGI : YAG1644TR-ND; Value: 36k5
footprint RES0603 (RESISTOR 0603)
pins: 1, 2

## RES0603_10k_2
designator R?, comment 11k7
11.7 kOhms ±0.1% 0.1W, 1/10W Chip Resistor 0603 (1608 Metric) Anti-Sulfur, Automotive AEC-Q200, Moisture Resistant Thin Film; Manufacturer Part Number: TNPW060311K7BEEA; Order Code: DIGI : 541-TNPW060311K7BEEATR-ND; Value: 11k7
footprint RES0603 (RESISTOR 0603)
pins: 1, 2

## RES0603_10k_3
designator R?, comment 11k7
11.7 kOhms ±0.1% 0.1W, 1/10W Chip Resistor 0603 (1608 Metric) Anti-Sulfur, Automotive AEC-Q200, Moisture Resistant Thin Film; Manufacturer Part Number: TNPW060311K7BEEA; Order Code: DIGI : 541-TNPW060311K7BEEATR-ND; Value: 11k7
footprint RES0603 (RESISTOR 0603)
pins: 1, 2

## RES0603_10k_4
designator R?, comment 11k7
11.7 kOhms ±0.1% 0.1W, 1/10W Chip Resistor 0603 (1608 Metric) Anti-Sulfur, Automotive AEC-Q200, Moisture Resistant Thin Film; Manufacturer Part Number: TNPW060311K7BEEA; Order Code: DIGI : 541-TNPW060311K7BEEATR-ND; Value: 11k7
footprint RES0603 (RESISTOR 0603)
pins: 1, 2

## RES0603_10k_5
designator R?, comment 11k7
11.7 kOhms ±0.1% 0.1W, 1/10W Chip Resistor 0603 (1608 Metric) Anti-Sulfur, Automotive AEC-Q200, Moisture Resistant Thin Film; Manufacturer Part Number: TNPW060311K7BEEA; Order Code: DIGI : 541-TNPW060311K7BEEATR-ND; Value: 11k7
footprint RES0603 (RESISTOR 0603)
pins: 1, 2

## RES0603_10K_%1
designator R?, comment value 10k  (hidden comment: RES 10K OHM 1% 1/10W 0603)
10 kOhms ±1% 0.1W, 1/10W Chip Resistor 0603 (1608 Metric) Moisture Resistant Thick Film; Manufacturer Part Number: RC0603FR-0710KL; Order Code: Digi: 311-10.0KHRTR-ND; Sirius Stock Code: *; LCSC Part Number: C98220; LCSC Manufacturer Part Number: RC0603FR-0710KL
footprint SMR0603
pins: 1, 2

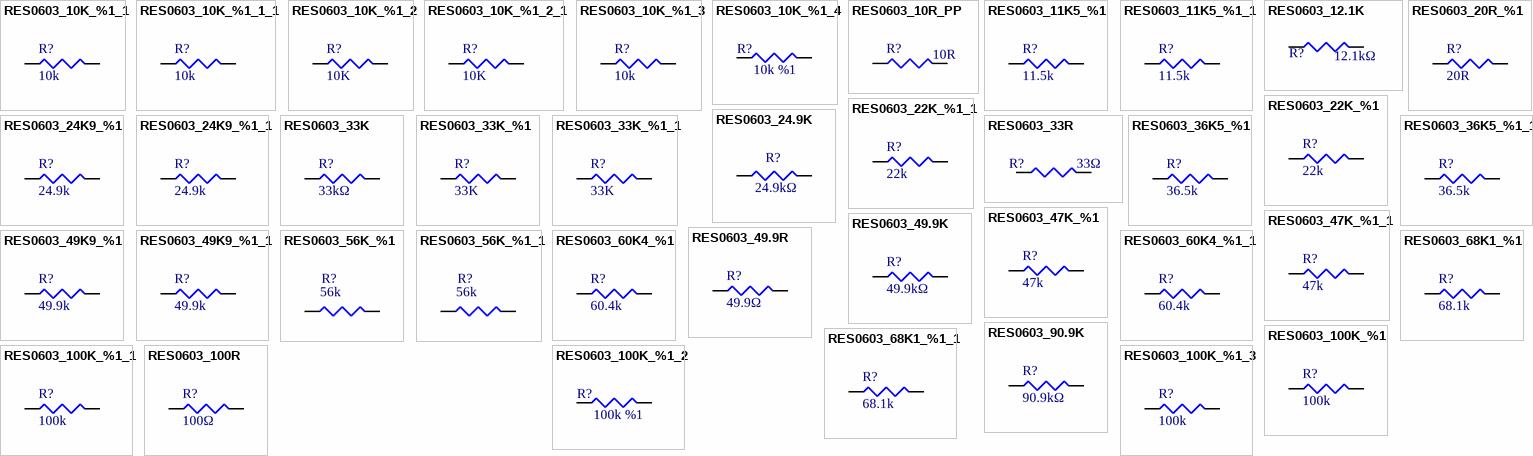
[diagram p38: symbols RES0603_10K_%1_1 to RES0603_100R]

## RES0603_10K_%1_1
designator R?, comment value 10k  (hidden comment: RES 10K OHM 1% 1/8W 0603)
10 kOhms ±1% 0.125W, 1/8W Chip Resistor 0603 (1608 Metric) Anti-Sulfur Thin Film; Manufacturer Part Number: RNCP0603FTD10K0; LCSC Manufacturer Part Number: MCT06030C1002FP500; Order Code: Digi: RNCP0603FTD10K0TR-ND; Sirius Stock Code: *; LCSC Part Number: C161803
footprint RES0603 (RESISTOR 0603)
pins: 1, 2

## RES0603_10K_%1_1_1
designator R?, comment value 10k  (hidden comment: RES 10K OHM 1% 1/8W 0603)
10 kOhms ±1% 0.125W, 1/8W Chip Resistor 0603 (1608 Metric) Anti-Sulfur Thin Film; Manufacturer Part Number: RNCP0603FTD10K0; LCSC Manufacturer Part Number: MCT06030C1002FP500; Order Code: Digi: RNCP0603FTD10K0TR-ND; Sirius Stock Code: *; LCSC Part Number: C161803
footprint RES0603 (RESISTOR 0603)
pins: 1, 2

## RES0603_10K_%1_2
designator R?, comment value 10K  (hidden comment: RES 10K OHM 1% 1/10W 0603)
10 kOhms ±1% 0.1W, 1/10W Chip Resistor 0603 (1608 Metric) Automotive AEC-Q200 Thick Film; Manufacturer Part Number: CQ03SAF1002T5E; Sirius Stock Code: A063-AGC103000177209
footprint RES0603 (RESISTOR 0603)
pins: 1, 2

## RES0603_10K_%1_2_1
designator R?, comment value 10K  (hidden comment: RES 10K OHM 1% 1/10W 0603)
10 kOhms ±1% 0.1W, 1/10W Chip Resistor 0603 (1608 Metric) Automotive AEC-Q200 Thick Film; Manufacturer Part Number: CQ03SAF1002T5E; Sirius Stock Code: A063-AGC103000177209
footprint RES0603 (RESISTOR 0603)
pins: 1, 2

## RES0603_10K_%1_3
designator R?, comment value 10k  (hidden comment: RES 10K OHM 1% 1/10W 0603)
10 kOhms ±1% 0.1W, 1/10W Chip Resistor 0603 (1608 Metric) Moisture Resistant Thick Film; Manufacturer Part Number: RC0603FR-0710KL; Order Code: Digi: 311-10.0KHRTR-ND; Sirius Stock Code: *; LCSC Part Number: C98220; LCSC Manufacturer Part Number: RC0603FR-0710KL
footprint SMR0603
pins: 1, 2

## RES0603_10K_%1_4
designator R?, comment value 10k %1  (hidden comment: RES SMD 10K OHM 1% 1/10W 0603)
10 kOhms ±1% 0.1W, 1/10W Chip Resistor 0603 (1608 Metric) Automotive AEC-Q200 Thick Film; Manufacturer Part Number: CRCW060310K0FKEA; Order Code: DIGI: 541-10.0KHTR-ND
footprint SMR0603
pins: 1, 2

## RES0603_10R_PP
designator R?, comment 10R
RES SMD 10 OHM 5% 1/4W 0603; Order Code: DIGI : RHM10DCT-ND; P/N: ESR03EZPJ100; ART Code: ART0020750; Value: 10R
footprint R0603
pins: 1, 2

## RES0603_11K5_%1
designator R?, comment value 11.5k  (hidden comment: RES 11.5K OHM 1% 1/10W 0603)
±1% 11.5kΩ 0603 Chip Resistor - Surface Mount ROHS; Manufacturer Part Number: SCR0603F11K5; Order Code: LCSC: C3016130; Sirius Stock Code: *; LCSC Part Number: C3016130; LCSC Manufacturer Part Number: SCR0603F11K5
footprint SMR0603
pins: 1, 2

## RES0603_11K5_%1_1
designator R?, comment value 11.5k  (hidden comment: RES 11.5K OHM 1% 1/10W 0603)
±1% 11.5kΩ 0603 Chip Resistor - Surface Mount ROHS; Manufacturer Part Number: SCR0603F11K5; Order Code: LCSC: C3016130; Sirius Stock Code: *; LCSC Part Number: C3016130; LCSC Manufacturer Part Number: SCR0603F11K5
footprint SMR0603
pins: 1, 2

## RES0603_12.1K
designator R?, comment 12.1kΩ
12.1 kOhms ±1% 0.1W, 1/10W Chip Resistor 0603 (1608 Metric) Moisture Resistant Thick Film; Manufacturer: YAGEO; Part Number: RC0603FR-0712K1L; Manufacturer Part Number: CR0603-FX-2492ELF; Tolerance: ±5%; Category 7542B8484461Ae85: Passive Components; Category 5A00970A6D5C81C7: Uncategorized; Category 5C6A91606D4187Ad: Resistors; Category Cd01000Bfc2916C6: Single Components; Symbol 0 0: Standard; Num Pins: 2; Value: 12.1kΩ; Package: 0603 (1608 metric); ComponentLink1Description: Upverter; ComponentLink1URL: https://upverter.com/upn/revision/974350d35a6c8a23/; helpURL: https://upverter.com/upn/revision/974350d35a6c8a23/; ComponentLink2Description: Datasheet; Temperature: -55°C to +155°C; Supplier 2: Mouser; Price: 0.00379592162232; Supplier 1: Digi-Key; Supplier Part Number 1: 311-10KGRCT-ND; ComponentLink2URL: http://www.yageo.com/documents/recent/PYu-RC_Group_51_RoHS_L_6.pdf; RoHS: TRUE; Mouser Part Number: 603-RC0603JR-0710KL; Ipc Land Pattern Name: RESC16080X45; Rated Power: 0.1W; Temperature Range High: +155°C; Octopart Part Number: 1fdcd61e8aa8c01b; Digikey Description: RES 10k Ohm ±5% 0.1W, 1/10W Chip Resistor 0603 (1608 Metric) Moisture Resistant Thick Film; Digikey Part Number: 311-10KGRCT-ND; Type: integrated circuit; Lead Free: yes; Temperature Range Low: -55°C
footprint R0603
pins: 1, 2

## RES0603_20R_%1
designator R?, comment value 20R  (hidden comment: RES 20 OHM 1% 1/10W 0603)
20 Ohms ±1% 0.1W, 1/10W Chip Resistor 0603 (1608 Metric) Automotive AEC-Q200 Thick Film; Manufacturer Part Number: RMCF0603FT20R0; LCSC Manufacturer Part Number: WR06X20R0FTL; Order Code: Digi: RMCF0603FT20R0TR-ND; Sirius Stock Code: *; LCSC Part Number: C163881
footprint RES0603 (RESISTOR 0603)
pins: 1, 2

## RES0603_22K_%1
designator R?, comment value 22k  (hidden comment: RES 22K OHM 1% 1/10W 0603)
10 kOhms ±1% 0.1W, 1/10W Chip Resistor 0603 (1608 Metric) Moisture Resistant Thick Film; Manufacturer Part Number: RC0603FR-0722KL; Order Code: Digi: 311-22.0KHRTR-ND; Sirius Stock Code: *; LCSC Part Number: C114065; LCSC Manufacturer Part Number: RC0603FR-0722KL
footprint SMR0603
pins: 1, 2

## RES0603_22K_%1_1
designator R?, comment value 22k  (hidden comment: RES 22K OHM 1% 1/10W 0603)
10 kOhms ±1% 0.1W, 1/10W Chip Resistor 0603 (1608 Metric) Moisture Resistant Thick Film; Manufacturer Part Number: RC0603FR-0722KL; Order Code: Digi: 311-22.0KHRTR-ND; Sirius Stock Code: *; LCSC Part Number: C114065; LCSC Manufacturer Part Number: RC0603FR-0722KL
footprint SMR0603
pins: 1, 2

## RES0603_24.9K
designator R?, comment 24.9kΩ
24.9 kOhms ±1% 0.1W, 1/10W Chip Resistor 0603 (1608 Metric) Moisture Resistant Thick Film; Part Number: RC0603JR-0710KL; Manufacturer Part Number: CR0603-FX-2492ELF; Manufacturer: YAGEO; Tolerance: ±5%; Category 7542B8484461Ae85: Passive Components; Category 5A00970A6D5C81C7: Uncategorized; Category 5C6A91606D4187Ad: Resistors; Category Cd01000Bfc2916C6: Single Components; Symbol 0 0: Standard; Num Pins: 2; Value: 24.9kΩ; helpURL: https://upverter.com/upn/revision/974350d35a6c8a23/; ComponentLink2Description: Datasheet; Temperature: -55°C to +155°C; Package: 0603 (1608 metric); Supplier 2: Mouser; Price: 0.00379592162232; Supplier 1: Digi-Key; ComponentLink1URL: https://upverter.com/upn/revision/974350d35a6c8a23/; Supplier Part Number 1: 311-10KGRCT-ND; ComponentLink1Description: Upverter; ComponentLink2URL: http://www.yageo.com/documents/recent/PYu-RC_Group_51_RoHS_L_6.pdf; RoHS: TRUE; Mouser Part Number: 603-RC0603JR-0710KL; Ipc Land Pattern Name: RESC16080X45; Rated Power: 0.1W; Temperature Range High: +155°C; Octopart Part Number: 1fdcd61e8aa8c01b; Digikey Description: RES 10k Ohm ±5% 0.1W, 1/10W Chip Resistor 0603 (1608 Metric) Moisture Resistant Thick Film; Digikey Part Number: 311-10KGRCT-ND; Type: integrated circuit; Lead Free: yes; Temperature Range Low: -55°C
footprint R0603
pins: 1, 2

## RES0603_24K9_%1
designator R?, comment value 24.9k  (hidden comment: RES 24.9K OHM 1% 1/10W 0603)
24.9 kOhms ±1% 0.1W, 1/10W Chip Resistor 0603 (1608 Metric) Moisture Resistant Thick Film; Manufacturer Part Number: RC0603FR-0724K9L; Order Code: Digi: 311-24.9KHRTR-ND; Sirius Stock Code: *; LCSC Part Number: C137761; LCSC Manufacturer Part Number: RC0603FR-0724K9L
footprint SMR0603
pins: 1, 2

## RES0603_24K9_%1_1
designator R?, comment value 24.9k  (hidden comment: RES 24.9K OHM 1% 1/10W 0603)
24.9 kOhms ±1% 0.1W, 1/10W Chip Resistor 0603 (1608 Metric) Moisture Resistant Thick Film; Manufacturer Part Number: RC0603FR-0724K9L; Order Code: Digi: 311-24.9KHRTR-ND; Sirius Stock Code: *; LCSC Part Number: C137761; LCSC Manufacturer Part Number: RC0603FR-0724K9L
footprint SMR0603
pins: 1, 2

## RES0603_33K
designator R?, comment 33kΩ
33 kOhms ±1% 0.1W, 1/10W Chip Resistor 0603 (1608 Metric) Automotive AEC-Q200 Thick Film; Manufacturer Part Number: RMCF0603FT180K; Part Number: RC0603JR-0710KL; Manufacturer: Stackpole Electronics Inc; Tolerance: ±5%; Category 7542B8484461Ae85: Passive Components; Category 5A00970A6D5C81C7: Uncategorized; Category 5C6A91606D4187Ad: Resistors; Category Cd01000Bfc2916C6: Single Components; Symbol 0 0: Standard; Num Pins: 2; Value: 33kΩ; helpURL: https://upverter.com/upn/revision/974350d35a6c8a23/; ComponentLink2Description: Datasheet; Temperature: -55°C to +155°C; Package: 0603 (1608 metric); Supplier 2: Mouser; Price: 0.00379592162232; Supplier 1: Digi-Key; ComponentLink1URL: https://upverter.com/upn/revision/974350d35a6c8a23/; Supplier Part Number 1: 311-10KGRCT-ND; ComponentLink1Description: Upverter; ComponentLink2URL: http://www.yageo.com/documents/recent/PYu-RC_Group_51_RoHS_L_6.pdf; RoHS: TRUE; Mouser Part Number: 603-RC0603JR-0710KL; Ipc Land Pattern Name: RESC16080X45; Rated Power: 0.1W; Temperature Range High: +155°C; Octopart Part Number: 1fdcd61e8aa8c01b; Digikey Description: RES 10k Ohm ±5% 0.1W, 1/10W Chip Resistor 0603 (1608 Metric) Moisture Resistant Thick Film; Digikey Part Number: 311-10KGRCT-ND; Type: integrated circuit; Lead Free: yes; Temperature Range Low: -55°C
footprint R0603
pins: 1, 2

## RES0603_33K_%1
designator R?, comment value 33K  (hidden comment: RES 33K OHM 1% 1/10W 0603)
33 kOhms ±1% 0.1W, 1/10W Chip Resistor 0603 (1608 Metric) Moisture Resistant Thick Film; Manufacturer Part Number: RC0603FR-0733KL; Order Code: Digi: 311-33.0KHRTR-ND; Sirius Stock Code: *; LCSC Manufacturer Part Number: RC0603FR-0733KL; LCSC Part Number: C126359
footprint SMR0603
pins: 1, 2

## RES0603_33K_%1_1
designator R?, comment value 33K  (hidden comment: RES 33K OHM 1% 1/10W 0603)
33 kOhms ±1% 0.1W, 1/10W Chip Resistor 0603 (1608 Metric) Moisture Resistant Thick Film; Manufacturer Part Number: RC0603FR-0733KL; Order Code: Digi: 311-33.0KHRTR-ND; Sirius Stock Code: *; LCSC Manufacturer Part Number: RC0603FR-0733KL; LCSC Part Number: C126359
footprint SMR0603
pins: 1, 2